# Altium integrated library cortex_20021121-00010C4LF.IntLib: 1 symbol
Pins are listed as number, name and electrical type; pins without a type are passive.

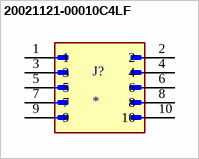
[diagram p0: symbol 20021121-00010C4LF]

## 20021121-00010C4LF
designator J?
Conn Rect BrdtoBrd UnshroudedHeader 10Cnts SMT 1.27x1.27mmSpng | Amphenol FCI (Amphenol CS) 20021121-00010C4LF; MF: Amphenol ICC; SnapEDA_Link: https://www.snapeda.com/parts/20021121-00010C4LF/Amphenol+FCI/view-part/?ref=snap; Package: None; Value: *; MP: 20021121-00010C4LF; Check_prices: https://www.snapeda.com/parts/20021121-00010C4LF/Amphenol+FCI/view-part/?ref=eda
footprint AMPHENOL_20021121-00010C4LF
pins: 1, 2, 3, 4, 5, 6, 7, 8, 9, 10